# Altium footprint library SER1360.PcbLib: 1 footprints
Each footprint in its own frame and in the unit in brackets; x right, y up, seen from the top. Pads: shape width x height; smd on the part's side, far side on the other; paste and mask are expansions set on the pad; w line width, h text height; cw(c..) or ccw(c..) is an arc to the next point about the centre after c.
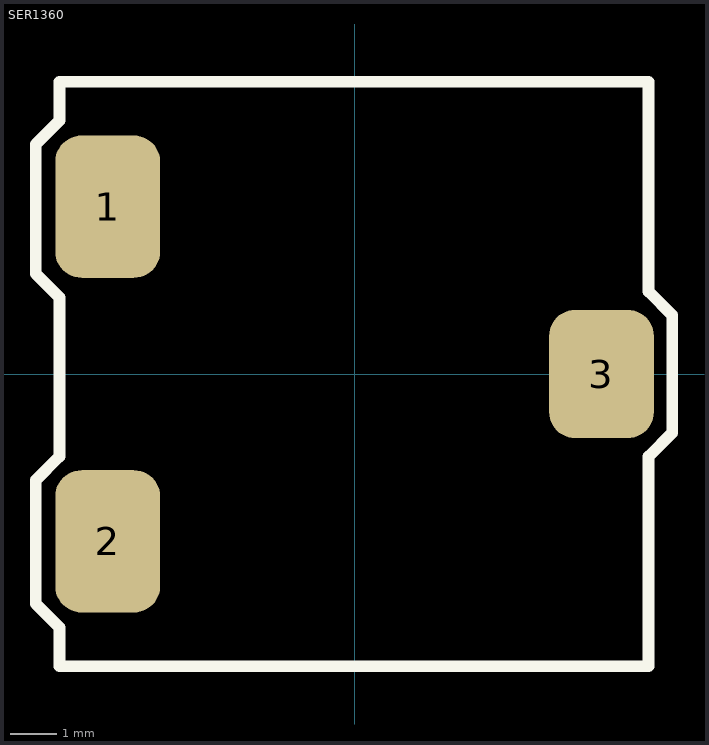
[diagram p0: the footprint, top view; thin cyan lines are the x and y axes]

## SER1360 [mil]
height 215
pads (3):
  rrect50% 89x121 smd: 1(-209.5,142) 2(-209.5,-142)
  rrect50% 89x109 smd: 3(209.5,0)
Top Overlay:
  lines w10: -270.5,-195 -250.5,-215 -250.5,-248 249.5,-248 249.5,-70 269.5,-50 269.5,50 249.5,70 249.5,248 -250.5,248 -250.5,215 -270.5,195 -270.5,85 -250.5,65 -250.5,-70 -270.5,-90 -270.5,-195